# Altium footprint library CAPAE660X570N.PcbLib: 1 footprints
Each footprint in its own frame and in the unit in brackets; x right, y up, seen from the top. Pads: shape width x height; smd on the part's side, far side on the other; paste and mask are expansions set on the pad; w line width, h text height; cw(c..) or ccw(c..) is an arc to the next point about the centre after c.
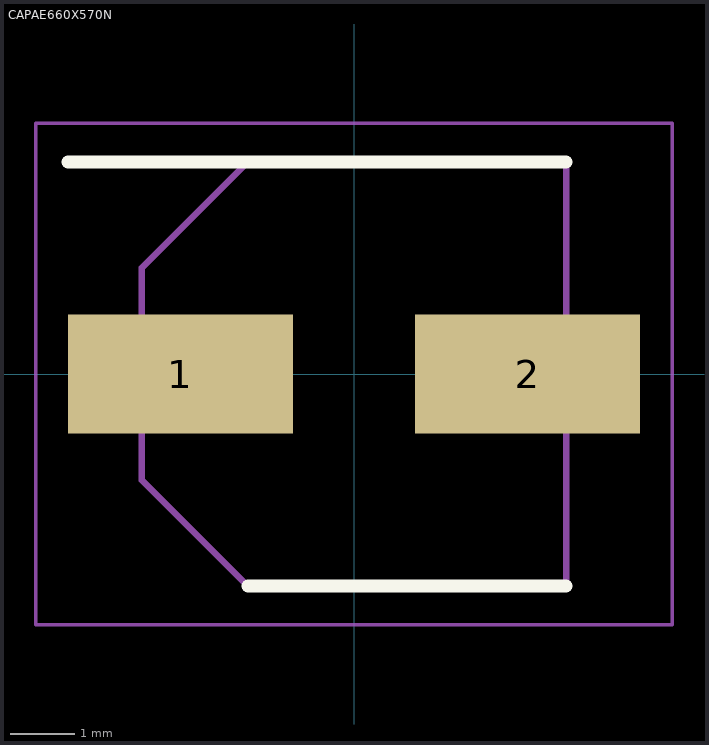
[diagram p0: the footprint, top view; thin cyan lines are the x and y axes]

## CAPAE660X570N [mm]
pads (2):
  rect 3.5x1.85 smd: 1(-2.7,0) 2(2.7,0)
Top Overlay:
  lines w0.2: -4.45,3.3 3.3,3.3 ; -1.65,-3.3 3.3,-3.3
Mechanical 15:
  lines w0.1: -3.3,-1.65 -3.3,1.65 -1.65,3.3 3.3,3.3 3.3,-3.3 -1.65,-3.3 -3.3,-1.65
Mechanical 20:
  lines w0.05: -4.95,-3.9 4.95,-3.9 4.95,3.9 -4.95,3.9 -4.95,-3.9